# Altium schematic symbol library HV_trans.SchLib: 1 symbol
Pins are listed as number, name and electrical type; pins without a type are passive.

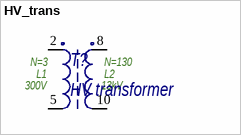
[diagram p0: symbol HV_trans]

## HV_trans
designator T?, comment HV transformer
Импульсный трансформатор для поджига вспышки
pins: 2, 5, 8, 10
text: N=3; N=130; L1; L2; 300V; 13kV